# EAGLE library part HEADER_POS17_? (library con-molex-c-grid-sl)
Molex -C-Grid® / SL Series connector Wire-to-Board 2.54 mm (0.100") pitch header, 17 positions.
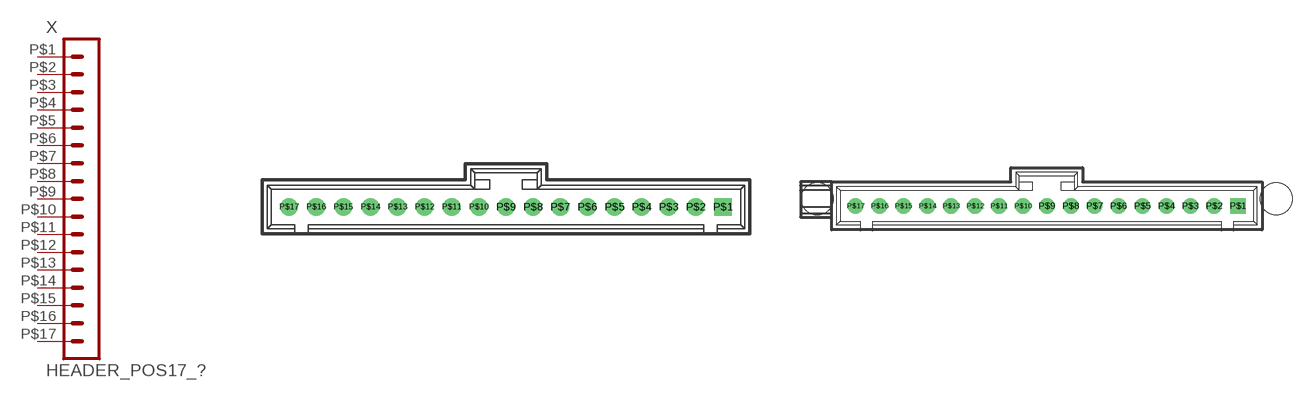
[diagram p11: symbol with the pads of 70543-POS17; footprints 70543-POS17, 70545-POS17]

Designator prefix X

## HEADER_POS17_70543  [70543-POS17]
P$1  1  pas
P$2  2  pas
P$3  3  pas
P$4  4  pas
P$5  5  pas
P$6  6  pas
P$7  7  pas
P$8  8  pas
P$9  9  pas
P$10  10  pas
P$11  11  pas
P$12  12  pas
P$13  13  pas
P$14  14  pas
P$15  15  pas
P$16  16  pas
P$17  17  pas

## HEADER_POS17_70545  [70545-POS17]
Pads as for 70543-POS17

## HEADER_POS17_70553  [70553-POS17]
Pads as for 70543-POS17

## HEADER_POS17_70555  [70555-POS17]
Pads as for 70543-POS17

## HEADER_POS17_70634  [70634-POS17]
Pads as for 70543-POS17

## HEADER_POS17_74099  [74099-POS17]
Pads as for 70543-POS17

## Footprint 70543-POS17 (pad centres in mm)
Molex C-Grid/SL - 70543 - Header, Shrouded, Thru Hole, Latch Holder http://www.molex.com/pdm_docs/sd/705430001_sd.pdf
drill 1.1 square: P$1 20.32,0
drill 1.1 round: P$2 17.78,0; P$3 15.24,0; P$4 12.7,0; P$5 10.16,0; P$6 7.62,0; P$7 5.08,0; P$8 2.54,0; P$9 0,0; P$10 -2.54,0; P$11 -5.08,0; P$12 -7.62,0; P$13 -10.16,0; P$14 -12.7,0; P$15 -15.24,0; P$16 -17.78,0; P$17 -20.32,0

## Footprint 70545-POS17 (pad centres in mm)
Molex C-Grid/SL - 70545 - Header, Shrouded, Thru Hole, Latch Holder, Board Guide http://www.molex.com/pdm_docs/sd/705450003_sd.pdf
drill 1.1 square: P$1 20.32,0
drill 1.1 round: P$2 17.78,0; P$3 15.24,0; P$4 12.7,0; P$5 10.16,0; P$6 7.62,0; P$7 5.08,0; P$8 2.54,0; P$9 0,0; P$10 -2.54,0; P$11 -5.08,0; P$12 -7.62,0; P$13 -10.16,0; P$14 -12.7,0; P$15 -15.24,0; P$16 -17.78,0; P$17 -20.32,0
hole 3.404 at -24.384,0.762
hole 3.404 at 24.384,0.762

## Footprint 70553-POS17 (pad centres in mm)
Molex C-Grid/SL - 70553 - Header, Shrouded, Thru Hole, Right Angle, Latch Holder http://www.molex.com/pdm_docs/sd/705530106_sd.pdf
drill 1.1 square: P$1 -20.32,0
drill 1.1 round: P$2 -17.78,0; P$3 -15.24,0; P$4 -12.7,0; P$5 -10.16,0; P$6 -7.62,0; P$7 -5.08,0; P$8 -2.54,0; P$9 0,0; P$10 2.54,0; P$11 5.08,0; P$12 7.62,0; P$13 10.16,0; P$14 12.7,0; P$15 15.24,0; P$16 17.78,0; P$17 20.32,0

## Footprint 70555-POS17 (pad centres in mm)
Molex C-Grid/SL - 70555 - Header, Shrouded, Thru Hole, Right Angle, Latch Holder, Board Guide. http://www.molex.com/pdm_docs/sd/705550001_sd.pdf
drill 1.1 square: P$1 -20.32,0
drill 1.1 round: P$2 -17.78,0; P$3 -15.24,0; P$4 -12.7,0; P$5 -10.16,0; P$6 -7.62,0; P$7 -5.08,0; P$8 -2.54,0; P$9 0,0; P$10 2.54,0; P$11 5.08,0; P$12 7.62,0; P$13 10.16,0; P$14 12.7,0; P$15 15.24,0; P$16 17.78,0; P$17 20.32,0
hole 3.404 at -21.717,8.636
hole 3.404 at 21.717,8.636

## Footprint 70634-POS17 (pad centres in mm)
Molex C-Grid/SL - 70634 - Header, Shrouded, Surface Mount, Right Angle, Latch Holder http://www.molex.com/pdm_docs/sd/015912045_sd.pdf
smd 1.651 x 5.334: P$1 -20.32,0; P$2 -17.78,0; P$3 -15.24,0; P$4 -12.7,0; P$5 -10.16,0; P$6 -7.62,0; P$7 -5.08,0; P$8 -2.54,0; P$9 0,0; P$10 2.54,0; P$11 5.08,0; P$12 7.62,0; P$13 10.16,0; P$14 12.7,0; P$15 15.24,0; P$16 17.78,0; P$17 20.32,0
hole 3.404 at -21.717,10.693
hole 3.404 at 21.717,10.693

## Footprint 74099-POS17 (pad centres in mm)
Molex C-Grid/SL - 74099 - Header, Shrouded, Surface Mount, Latch Holder http://www.molex.com/pdm_docs/sd/740991004_sd.pdf
smd 1.27 x 3.175: P$1 20.32,2.095; P$2 17.78,-2.095; P$3 15.24,2.095; P$4 12.7,-2.095; P$5 10.16,2.095; P$6 7.62,-2.095; P$7 5.08,2.095; P$8 2.54,-2.095; P$9 0,2.095; P$10 -2.54,-2.095; P$11 -5.08,2.095; P$12 -7.62,-2.095; P$13 -10.16,2.095; P$14 -12.7,-2.095; P$15 -15.24,2.095; P$16 -17.78,-2.095; P$17 -20.32,2.095